# EAGLE library part LAN9514-JZX (library SamacSys_Parts)
USB2 Hub 10/100 Ethernet Controller QFN Microchip LAN9514-JZX Ethernet Controller, 1.5 Mbit/s, 12 Mbit/s, 480 Mbit/s USB, 3.3 V QFN, 64-Pin Source: Datasheet
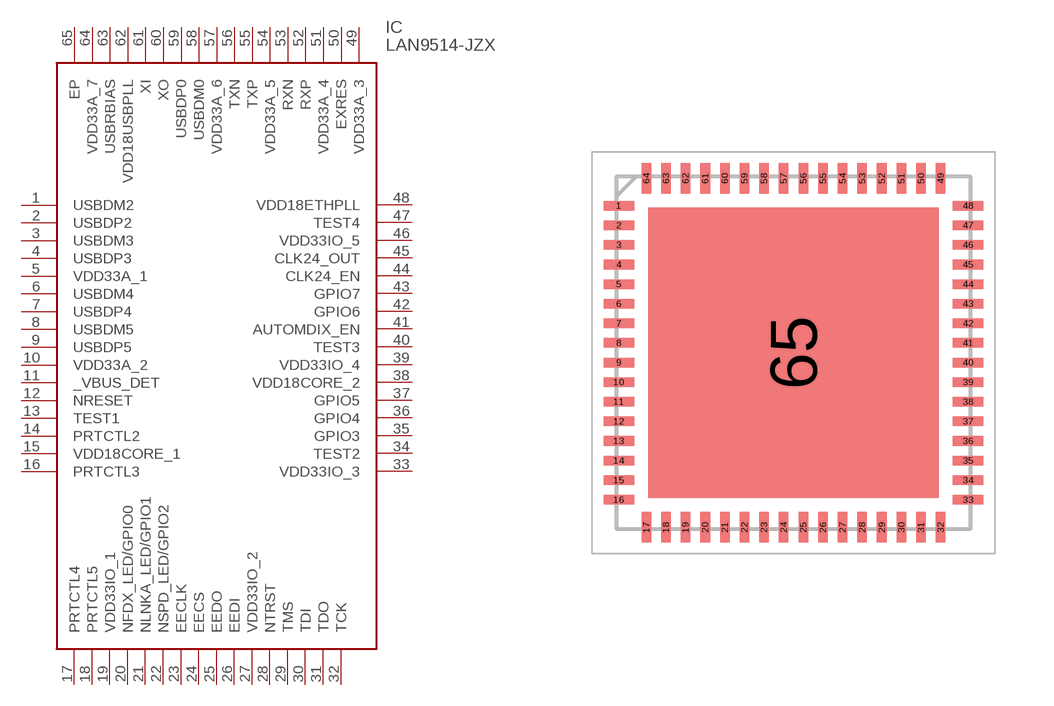
[diagram p10: symbol with the pads of QFN50P900X900X100-65N; footprint QFN50P900X900X100-65N]

Designator prefix IC

## LAN9514-JZX (DESCRIPTION: USB2 Hub 10/100 Ethernet Controller QFN Microchip LAN9514-JZX Ethernet Controller, 1.5 Mbit/s, 12 Mbit/s, 480 Mbit/s USB, 3.3 V QFN, 64-Pin; HEIGHT: 1mm; MANUFACTURER_NAME: Microchip; MANUFACTURER_PART_NUMBER: LAN9514-JZX; MOUSER_PART_NUMBER: 886-LAN9514-JZX; MOUSER_PRICE-STOCK: https://www.mouser.co.uk/ProductDetail/Microchip-Technology/LAN9514-JZX/?qs=pA5MXup5wxG3FeSVAAlYgA%3D%3D)  [QFN50P900X900X100-65N]
1  USBDM2
2  USBDP2
3  USBDM3
4  USBDP3
5  VDD33A_1
6  USBDM4
7  USBDP4
8  USBDM5
9  USBDP5
10  VDD33A_2
11  _VBUS_DET
12  NRESET
13  TEST1
14  PRTCTL2
15  VDD18CORE_1
16  PRTCTL3
17  PRTCTL4
18  PRTCTL5
19  VDD33IO_1
20  NFDX_LED/GPIO0
21  NLNKA_LED/GPIO1
22  NSPD_LED/GPIO2
23  EECLK
24  EECS
25  EEDO
26  EEDI
27  VDD33IO_2
28  NTRST
29  TMS
30  TDI
31  TDO
32  TCK
33  VDD33IO_3
34  TEST2
35  GPIO3
36  GPIO4
37  GPIO5
38  VDD18CORE_2
39  VDD33IO_4
40  TEST3
41  AUTOMDIX_EN
42  GPIO6
43  GPIO7
44  CLK24_EN
45  CLK24_OUT
46  VDD33IO_5
47  TEST4
48  VDD18ETHPLL
49  VDD33A_3
50  EXRES
51  VDD33A_4
52  RXP
53  RXN
54  VDD33A_5
55  TXP
56  TXN
57  VDD33A_6
58  USBDM0
59  USBDP0
60  XO
61  XI
62  VDD18USBPLL
63  USBRBIAS
64  VDD33A_7
65  EP

## Footprint QFN50P900X900X100-65N (pad centres in mm)
64-pin, QFN lead-free
smd 0.775 x 0.245: 1 -4.45,3.75; 2 -4.45,3.25; 3 -4.45,2.75; 4 -4.45,2.25; 5 -4.45,1.75; 6 -4.45,1.25; 7 -4.45,0.75; 8 -4.45,0.25; 9 -4.45,-0.25; 10 -4.45,-0.75; 11 -4.45,-1.25; 12 -4.45,-1.75; 13 -4.45,-2.25; 14 -4.45,-2.75; 15 -4.45,-3.25; 16 -4.45,-3.75; 33 4.45,-3.75; 34 4.45,-3.25; 35 4.45,-2.75; 36 4.45,-2.25; 37 4.45,-1.75; 38 4.45,-1.25; 39 4.45,-0.75; 40 4.45,-0.25; 41 4.45,0.25; 42 4.45,0.75; 43 4.45,1.25; 44 4.45,1.75; 45 4.45,2.25; 46 4.45,2.75; 47 4.45,3.25; 48 4.45,3.75
smd 0.245 x 0.775: 17 -3.75,-4.45; 18 -3.25,-4.45; 19 -2.75,-4.45; 20 -2.25,-4.45; 21 -1.75,-4.45; 22 -1.25,-4.45; 23 -0.75,-4.45; 24 -0.25,-4.45; 25 0.25,-4.45; 26 0.75,-4.45; 27 1.25,-4.45; 28 1.75,-4.45; 29 2.25,-4.45; 30 2.75,-4.45; 31 3.25,-4.45; 32 3.75,-4.45; 49 3.75,4.45; 50 3.25,4.45; 51 2.75,4.45; 52 2.25,4.45; 53 1.75,4.45; 54 1.25,4.45; 55 0.75,4.45; 56 0.25,4.45; 57 -0.25,4.45; 58 -0.75,4.45; 59 -1.25,4.45; 60 -1.75,4.45; 61 -2.25,4.45; 62 -2.75,4.45; 63 -3.25,4.45; 64 -3.75,4.45
smd 7.4 x 7.4: 65 0,0